# EAGLE library part XPT2046 (library IC & Transistor)
SMD Resistive Touch Screen Controller
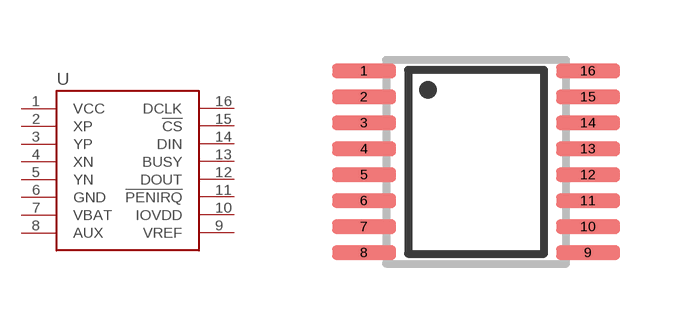
[diagram p18: symbol with the pads of TSSOP-16; footprint TSSOP-16]

Designator prefix U

## XPT2046_(TSSOP-16) (CYTRON-PC: S-IC-XPT2046-SSOP16; DESC: S Touch Screen Controller XPT2046; MF: XPT; MPN: XPT2046)  [TSSOP-16]
1  VCC
2  XP
3  YP
4  XN
5  YN
6  GND
7  VBAT
8  AUX
9  VREF
10  IOVDD
11  !PENIRQ
12  DOUT
13  BUSY
14  DIN
15  !CS
16  DCLK

## Footprint TSSOP-16 (pad centres in mm)
TSSOP-16 (R-PDSO-G16) Size: 5.1mm x 4.5mm Pitch: 0.65mm Modified by: Wai Weng
smd 1.6 x 0.35: 1 -2.8,2.275; 2 -2.8,1.625; 3 -2.8,0.975; 4 -2.8,0.325; 5 -2.8,-0.325; 6 -2.8,-0.975; 7 -2.8,-1.625; 8 -2.8,-2.275; 9 2.8,-2.275; 10 2.8,-1.625; 11 2.8,-0.975; 12 2.8,-0.325; 13 2.8,0.325; 14 2.8,0.975; 15 2.8,1.625; 16 2.8,2.275